# Altium schematic symbol library inductor-0603.SchLib: 1 symbol
Pins are listed as number, name and electrical type; pins without a type are passive.

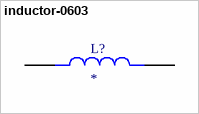
[diagram p0: symbol inductor-0603]

## inductor-0603
designator L?
footprint inductor 0603
pins: 1, 2